# Altium footprint library DDC112_Components.PcbLib: 24 footprints (part 2 of 2)
Each footprint in its own frame and in the unit in brackets; x right, y up, seen from the top. Pads: shape width x height; smd on the part's side, far side on the other; paste and mask are expansions set on the pad; w line width, h text height; cw(c..) or ccw(c..) is an arc to the next point about the centre after c.
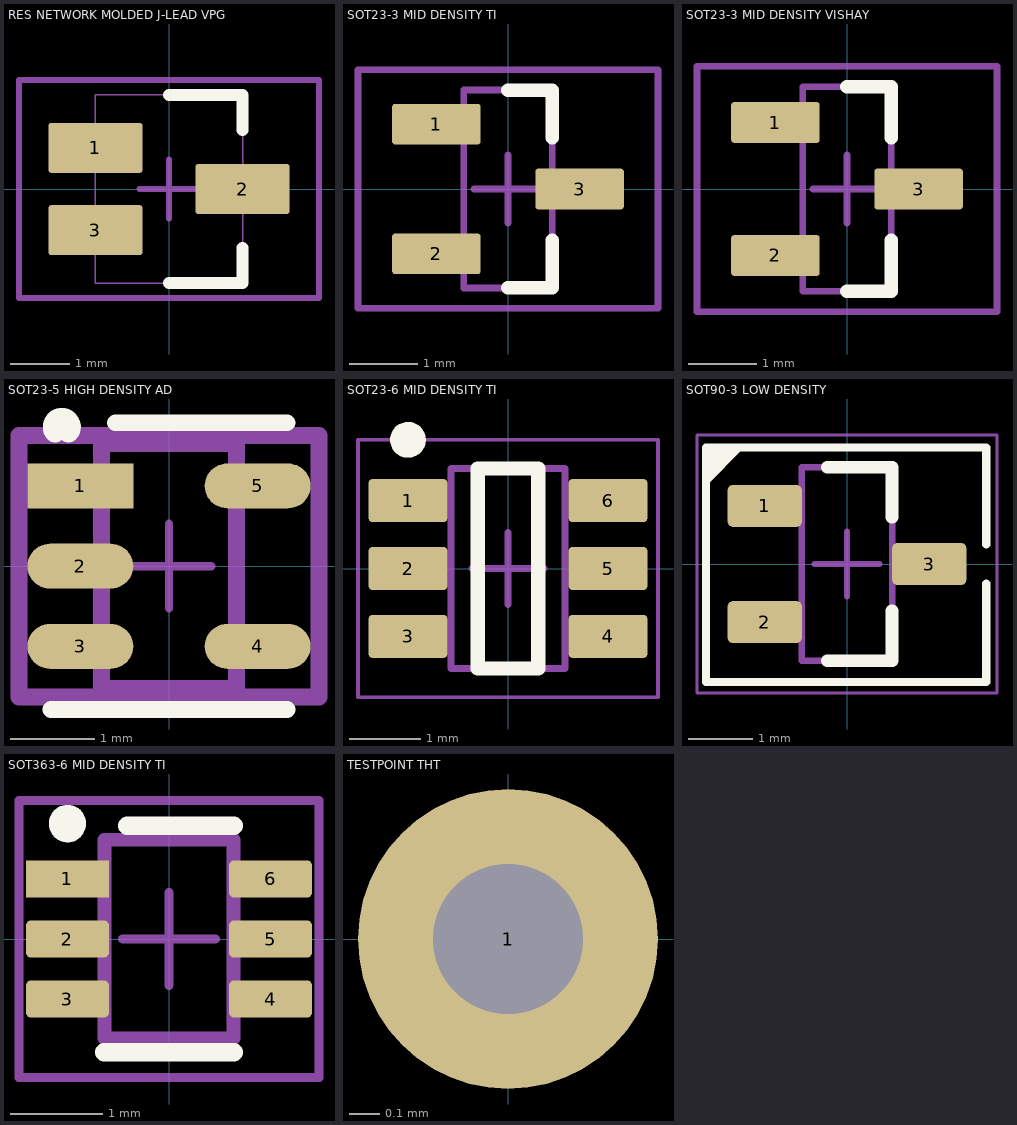
[diagram p1: the footprints below, top view; thin cyan lines are the x and y axes]

## RES NETWORK MOLDED J-LEAD VPG [mm] "Pin numbering is unconventional. See the VPG MU series datasheet."
pads (3):
  rrect11% 1.6x0.85 smd mask+0.035: 1(-1.25,0.7) 2(1.25,0) 3(-1.25,-0.7)
Top Overlay:
  lines w0.2: 0,-1.6 1.25,-1.6 1.25,-1 ; 0,1.6 1.25,1.6 1.25,1
Top Courtyard:
  lines w0.1: -2.55,-1.85 2.55,-1.85 2.55,1.85 -2.55,1.85 -2.55,-1.85
Top 3D Body:
  lines w0.025: -1.25,-1.6 -1.25,1.6 1.25,1.6 1.25,-1.6 -1.25,-1.6
Top Component Center:
  lines w0.1: -0.5,0 0.5,0 ; 0,-0.5 0,0.5
3D body "MU[1].STEP": height 1.6, standoff 0, extent -1.35,-1.6 1.35,1.6

## SOT23-3 MID DENSITY TI [mm] "Reference document: DBZ0003A"
pads (3):
  rrect16% 1.3x0.6 smd mask+0.035: 1(-1.05,0.95) 2(-1.05,-0.95) 3(1.05,0)
Top Overlay:
  lines w0.2: 0,-1.45 0.65,-1.45 0.65,-0.75 ; 0,1.45 0.65,1.45 0.65,0.75
Top Courtyard:
  lines w0.1: -2.2,-1.75 -2.2,1.75 2.2,1.75 2.2,-1.75 -2.2,-1.75
Top 3D Body:
  lines w0.1: -0.65,-1.45 -0.65,1.45 0.65,1.45 0.65,-1.45 -0.65,-1.45
Top Component Center:
  lines w0.1: -0.5,0 0.5,0 ; 0,-0.5 0,0.5
3D body "DBZ0003A.stp": height 1, standoff 0, extent -1.27,-1.46 1.27,1.46

## SOT23-3 MID DENSITY VISHAY [mm]
pads (3):
  rrect16% 1.3x0.6 smd mask+0.035: 1(-1.05,0.975) 2(-1.05,-0.975) 3(1.05,0)
Top Overlay:
  lines w0.2: 0,-1.5 0.65,-1.5 0.65,-0.75 ; 0,1.5 0.65,1.5 0.65,0.75
Top Courtyard:
  lines w0.1: -2.2,-1.8 -2.2,1.8 2.2,1.8 2.2,-1.8 -2.2,-1.8
Top 3D Body:
  lines w0.1: -0.65,-1.5 -0.65,1.5 0.65,1.5 0.65,-1.5 -0.65,-1.5
Top Component Center:
  lines w0.1: -0.5,0 0.5,0 ; 0,-0.5 0,0.5
3D body "MPM_VIS.step": height 1.12, standoff 0, extent -1.245,-1.524 1.245,1.524

## SOT23-5 HIGH DENSITY AD [mm] "FP-UJ-5-IPC_C"
pads (5):
  rect 1.254x0.532 smd paste+0 mask+0.025: 1(-1.05,0.95)
  rrect100% 1.254x0.532 smd paste+0 mask+0.025: 2(-1.05,0) 3(-1.05,-0.95) 4(1.05,-0.95) 5(1.05,0.95)
Top Overlay:
  lines w0.2: -1.4,-1.7 1.4,-1.7 ; -0.635,1.7 1.4,1.7
  lines w0.25: -1.35,1.591 cw(c-1.27,1.651) -1.19,1.591
Top Assembly:
  lines w0.2: -1.777,-1.55 -1.777,1.55 1.777,1.55 1.777,-1.55 -1.777,-1.55
  text ".Designator" at 0,0 h1
Top Courtyard:
  lines w0.2: -1.777,-1.55 -1.777,1.55 1.777,1.55 1.777,-1.55 -1.777,-1.55
Top 3D Body:
  lines w0.2: -0.8,-1.45 -0.8,1.45 0.8,1.45 0.8,-1.45 -0.8,-1.45
Top Component Center:
  lines w0.1: -0.5,0 0.5,0 ; 0,-0.5 0,0.5
3D body "IC_Analog_Devices_ADP7142AUJZ-R7_eec.STEP": height 1, standoff 0, extent -1.4,-1.45 1.4,1.45

## SOT23-6 MID DENSITY TI [mm] "Reference document: DBV0006A"
pads (6):
  rrect16% 1.1x0.6 smd mask+0.025: 1(-1.4,0.95) 2(-1.4,0) 3(-1.4,-0.95) 4(1.4,-0.95) 5(1.4,0) 6(1.4,0.95)
Top Overlay:
  circle w0.25: c-1.4,1.801 r0.125
  lines w0.2: -0.425,-1.4 0.425,-1.4 0.425,1.4 -0.425,1.4 -0.425,-1.4
Top Courtyard:
  lines w0.05: -2.1,-1.8 2.1,-1.8 2.1,1.8 -2.1,1.8 -2.1,-1.8
Top 3D Body:
  lines w0.1: -0.8,-1.4 0.8,-1.4 0.8,1.4 -0.8,1.4 -0.8,-1.4
Top Component Center:
  lines w0.1: -0.5,0 0.5,0 ; 0,-0.5 0,0.5
3D body "REF3440TIDBVR.step": height 1.45, standoff 0, extent -1.4,-1.45 1.4,1.45

## SOT90-3 LOW DENSITY [mm] "SOT90P240X110-3M"
pads (3):
  rrect25% 1.15x0.65 smd: 1(-1.275,0.9) 2(-1.275,-0.9) 3(1.275,0)
Top Overlay:
  region: -2.184,1.216 -1.597,1.803 -2.184,1.803
  lines w0.127: 2.159,-0.303 2.159,-1.829 -2.184,-1.829 -2.184,1.803 2.159,1.803 2.159,0.303
  lines w0.2: -0.3,-1.5 0.7,-1.5 0.7,-0.725 ; -0.3,1.5 0.7,1.5 0.7,0.725
Top Courtyard:
  lines w0.05: -2.325,-2 -2.325,2 2.325,2 2.325,-2 -2.325,-2
Top 3D Body:
  lines w0.1: -0.7,-1.5 -0.7,1.5 0.7,1.5 0.7,-1.5 -0.7,-1.5
Top Component Center:
  lines w0.1: -0.5,0 0.5,0 ; 0,-0.5 0,0.5
3D body "SOT90P240X110-3M.step": height 1.1, standoff 0, extent -1.25,-1.5 1.25,1.5

## SOT363-6 MID DENSITY TI [mm] "Reference Document: DCK0006A"
pads (6):
  rect 0.9x0.4 smd paste+0 mask+0.025: 1(-1.1,0.65)
  rrect25% 0.9x0.4 smd paste+0 mask+0.025: 2(-1.1,0) 3(-1.1,-0.65) 4(1.1,-0.65) 5(1.1,0) 6(1.1,0.65)
Top Overlay:
  circle w0.254: c-1.1,1.25 r0.075
  lines w0.2: -0.7,-1.225 0.7,-1.225 ; -0.45,1.225 0.7,1.225
Top Courtyard:
  lines w0.1: -1.625,-1.5 1.625,-1.5 1.625,1.5 -1.625,1.5 -1.625,-1.5
Top 3D Body:
  lines w0.15: -0.7,-1.075 -0.7,1.075 0.7,1.075 0.7,-1.075 -0.7,-1.075
Top Component Center:
  lines w0.1: -0.5,0 0.5,0 ; 0,-0.5 0,0.5
3D body "DCK0006A.stp": height 1, standoff 0, extent -1.046,-0.996 1.054,1.004

## TESTPOINT THT [mm]
height 2.37
pads (1):
  round 1 hole 0.5: 1(0,0)